# Altium footprint library PcbLib1 5VRegulator.PcbLib: 1 footprints
Each footprint in its own frame and in the unit in brackets; x right, y up, seen from the top. Pads: shape width x height; smd on the part's side, far side on the other; paste and mask are expansions set on the pad; w line width, h text height; cw(c..) or ccw(c..) is an arc to the next point about the centre after c.
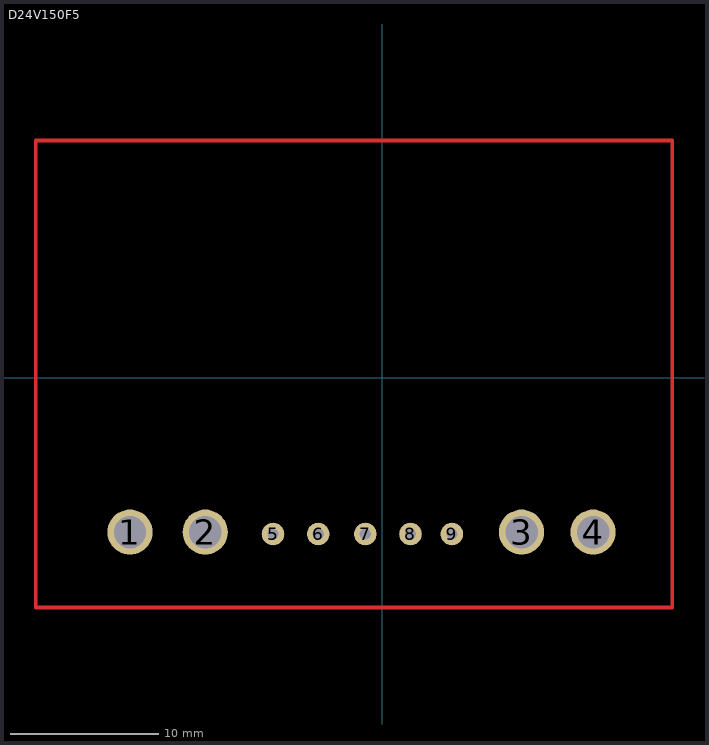
[diagram p0: the footprint, top view; thin cyan lines are the x and y axes]

## D24V150F5 [mil] "5V regulator"
pads (9):
  round 120 hole 86: 1(-670,-410) 2(-470,-410) 3(370,-410) 4(560,-410)
  round 60 hole 30: 5(-290,-415) 6(-170,-415) 7(-45,-415) 8(75,-415) 9(185,-415)
Top Layer:
  lines w10: -920,-610 770,-610 770,630 -920,630 -920,-610